# EAGLE library part MCP2515 (library MCP)
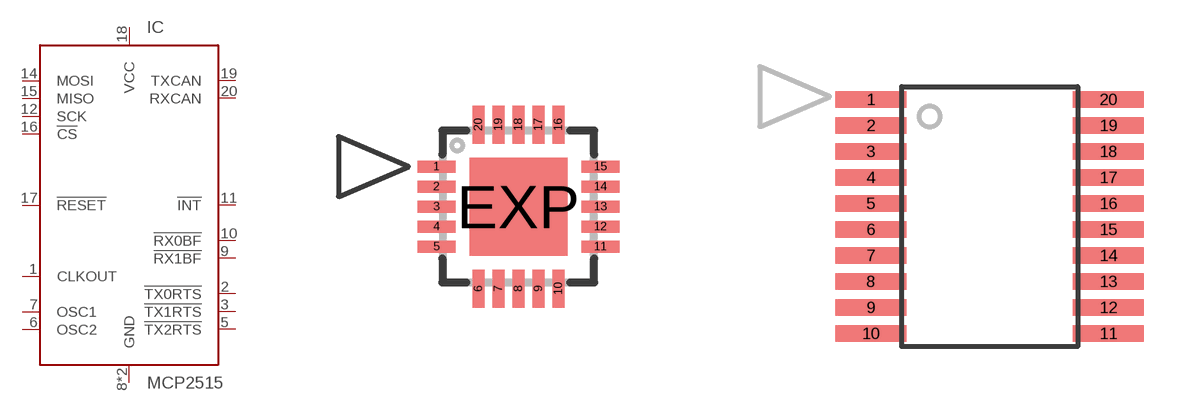
[diagram p1: symbol with the pads of QFN20; footprints QFN20, TSSOP-20]

Designator prefix IC

## MCP2515-E/ML (MF: MICROCHIP; MPN: MCP2515-E/ST), MCP2515-I/ML (MF: MICROCHIP; MPN: MCP2515-I/ST)  [QFN20]
1  CLKOUT  out
2  !TX0RTS  in
3  !TX1RTS  in
5  !TX2RTS  in
6  OSC2  out
7  OSC1  in
8  GND  pwr
9  !RX1BF  out
10  !RX0BF  out
11  !INT  out
12  SCK  in
14  MOSI  in
15  MISO
16  !CS  in
17  !RESET  in
18  VCC  in
19  TXCAN  out
20  RXCAN  in
EXP  GND  pwr

## MCP2515-E/ST, MCP2515-I/ST  [TSSOP-20]
1  TXCAN  out
2  RXCAN  in
3  CLKOUT  out
4  !TX0RTS  in
5  !TX1RTS  in
7  !TX2RTS  in
8  OSC2  out
9  OSC1  in
10  GND  pwr
11  !RX1BF  out
12  !RX0BF  out
13  !INT  out
14  SCK  in
16  MOSI  in
17  MISO
18  !CS  in
19  !RESET  in
20  VCC  in

## Footprint QFN20 (pad centres in mm)
ES Package, 20-Contact QFN with Exposed Thermal Pad Data sheet <http://www.allegromicro.com/en/Products/Part_Numbers/3906/3906.pdf>
smd 0.95 x 0.3: 1 -2.05,1; 2 -2.05,0.5; 3 -2.05,0; 4 -2.05,-0.5; 5 -2.05,-1; 11 2.05,-1; 12 2.05,-0.5; 13 2.05,0; 14 2.05,0.5; 15 2.05,1
smd 0.3 x 0.95: 6 -1,-2.05; 7 -0.5,-2.05; 8 0,-2.05; 9 0.5,-2.05; 10 1,-2.05; 16 1,2.05; 17 0.5,2.05; 18 0,2.05; 19 -0.5,2.05; 20 -1,2.05
smd 2.45 x 2.45: EXP 0,0

## Footprint TSSOP-20 (pad centres in mm)
smd 1.78 x 0.42: 1 -2.97,2.925; 2 -2.97,2.275; 3 -2.97,1.625; 4 -2.97,0.975; 5 -2.97,0.325; 6 -2.97,-0.325; 7 -2.97,-0.975; 8 -2.97,-1.625; 9 -2.97,-2.275; 10 -2.97,-2.925; 11 2.97,-2.925; 12 2.97,-2.275; 13 2.97,-1.625; 14 2.97,-0.975; 15 2.97,-0.325; 16 2.97,0.325; 17 2.97,0.975; 18 2.97,1.625; 19 2.97,2.275; 20 2.97,2.925